# Altium schematic symbol library THD Passive Components.SchLib: 13 symbols
Pins are listed as number, name and electrical type; pins without a type are passive.

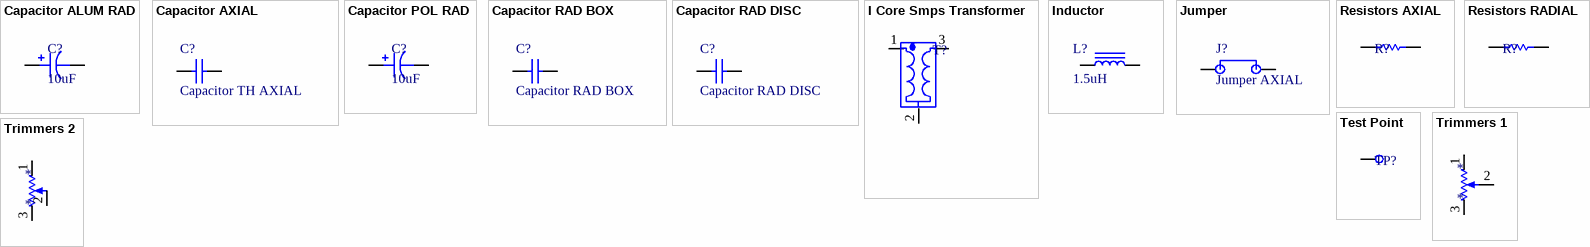
[diagram p0: symbols Capacitor ALUM RAD to Trimmers 2]

## Capacitor ALUM RAD
designator C?, comment 10uF
ALUM Polarised Capacitor; Value: 10uF
footprint CAP AL TH D10 L5 H12.5 (10MM Diameter, 5MM Lead Spacing Aluminium Capacitor)
footprint CAP AL TH D10 L5 H14.5 (10MM Diameter, 5MM Lead Spacing Aluminium Capacitor)
footprint CAP AL TH D10 L5 H17.5 (10MM Diameter, 5MM Lead Spacing Aluminium Capacitor)
footprint CAP AL TH D10 L5 H22 (10MM Diameter, 5MM Lead Spacing Aluminium Capacitor)
footprint CAP AL TH D10 L5 H30 (10MM Diameter, 5MM Lead Spacing Aluminium Capacitor)
footprint CAP AL TH D12.5 L5 H14 (12.5MM Diameter, 5MM Lead Spacing Aluminium Capacitor)
footprint CAP AL TH D12.5 L5 H15 (12.5MM Diameter, 5MM Lead Spacing Aluminium Capacitor)
footprint CAP AL TH D12.5 L5 H16.5 (12.5MM Diameter, 5MM Lead Spacing Aluminium Capacitor)
footprint CAP AL TH D12.5 L5 H17.5 (12.5MM Diameter, 5MM Lead Spacing Aluminium Capacitor)
footprint CAP AL TH D12.5 L5 H20 (12.5MM Diameter, 5MM Lead Spacing Aluminium Capacitor)
footprint CAP AL TH D12.5 L5 H21.5 (12.5MM Diameter, 5MM Lead Spacing Aluminium Capacitor)
footprint CAP AL TH D12.5 L5 H22 (12.5MM Diameter, 5MM Lead Spacing Aluminium Capacitor)
footprint CAP AL TH D12.5 L5 H25 (12.5MM Diameter, 5MM Lead Spacing Aluminium Capacitor)
footprint CAP AL TH D12.5 L5 H26.5 (12.5MM Diameter, 5MM Lead Spacing Aluminium Capacitor)
footprint CAP AL TH D12.5 L5 H27 (12.5MM Diameter, 5MM Lead Spacing Aluminium Capacitor)
footprint CAP AL TH D12.5 L5 H35.5 (12.5MM Diameter, 5MM Lead Spacing Aluminium Capacitor)
footprint CAP AL TH D16 L7.5 H16.5 (16MM Diameter, 7.5MM Lead Spacing Aluminium Capacitor)
footprint CAP AL TH D16 L7.5 H20 (16MM Diameter, 7.5MM Lead Spacing Aluminium Capacitor)
footprint CAP AL TH D16 L7.5 H22 (16MM Diameter, 7.5MM Lead Spacing Aluminium Capacitor)
footprint CAP AL TH D16 L7.5 H26.5 (16MM Diameter, 7.5MM Lead Spacing Aluminium Capacitor)
footprint CAP AL TH D16 L7.5 H27 (16MM Diameter, 7.5MM Lead Spacing Aluminium Capacitor)
footprint CAP AL TH D16 L7.5 H33.5 (16MM Diameter, 7.5MM Lead Spacing Aluminium Capacitor)
footprint CAP AL TH D16 L7.5 H37 (16MM Diameter, 7.5MM Lead Spacing Aluminium Capacitor)
footprint CAP AL TH D22 L10 H14.5 (16MM Diameter, 7.5MM Lead Spacing Aluminium Capacitor)
footprint CAP AL TH D22 L10 H33 (16MM Diameter, 7.5MM Lead Spacing Aluminium Capacitor)
footprint CAP AL TH D22 L10 H43 (16MM Diameter, 7.5MM Lead Spacing Aluminium Capacitor)
footprint CAP AL TH D22 L10 H53 (16MM Diameter, 7.5MM Lead Spacing Aluminium Capacitor)
footprint CAP AL TH D25 L12.5 H14.5 (16MM Diameter, 7.5MM Lead Spacing Aluminium Capacitor)
footprint CAP AL TH D25 L12.5 H32 (16MM Diameter, 7.5MM Lead Spacing Aluminium Capacitor)
footprint CAP AL TH D25 L12.5 H42 (16MM Diameter, 7.5MM Lead Spacing Aluminium Capacitor)
footprint CAP AL TH D25 L12.5 H52 (16MM Diameter, 7.5MM Lead Spacing Aluminium Capacitor)
pins: 1, 2

## Capacitor AXIAL
designator C?, comment Capacitor TH AXIAL
AXIAL, Non Polarized Capacitor
footprint AXIAL-0.2-CAP
footprint AXIAL-0.3-CAP
footprint AXIAL-0.4-CAP
pins: 1, 2
1 alternate drawing of the same symbol

## Capacitor POL RAD
designator C?, comment 10uF
RAD Polarised Capacitor; Value: 10uF
footprint RB.1/.2-CAP-POL
footprint RB.1/.3-CAP-POL
footprint RB.2/.4-CAP-POL
footprint RB.2/.5-CAP-POL (RB.2/.5 Electrolitic Capacitor)
footprint RB.3/.6-CAP-POL
footprint RB.4/.8-CAP-POL
pins: 1, 2

## Capacitor RAD BOX
designator C?
Radial, Box Type Polyester Capacitor
footprint RAD0.2-CAP-BOX
footprint RAD0.2-CAP-BOX SQ
footprint RAD0.3-CAP-BOX
footprint RAD0.4-CAP-BOX
footprint RAD0.6-CAP-BOX (Axial Device, Thru-Hole; 2 Leads; 0.6 in Pin Spacing)
footprint RAD0.9-CAP-BOX (Axial Device, Thru-Hole; 2 Leads; 0.9 in Pin Spacing)
footprint RAD1.1-CAP-BOX (Axial Device, Thru-Hole; 2 Leads; 1.0 in Pin Spacing)
pins: 1, 2
1 alternate drawing of the same symbol

## Capacitor RAD DISC
designator C?
Radial, Disc Type Ceramic Capacitor
footprint RAD0.1-CAP-DISC
footprint RAD0.2-CAP-DISC
footprint RAD0.3-CAP-DISC
pins: 1, 2
1 alternate drawing of the same symbol

## I Core Smps Transformer
designator T?
SMPS Transformer 1-3 300u, 1-2 100u, 2-3 56u
footprint YR I Core Auto Transformer - 1
pins: 1, 2, 3

## Inductor
designator L?, comment 1.5uH
Thru Hole Inductor; Value: 1.5uH
footprint IND I or DRUM CORE Radial Thru Hole 12x14mm and Pitch 6mm
footprint IND I or DRUM CORE Radial Thru Hole 12x20mm and Pitch 6mm
pins: 1, 2

## Jumper
designator J?, comment Jumper AXIAL
Jumper - Wire; Published: 24-Mar-1999; LatestRevisionDate: 17-Jul-2002; LatestRevisionNote: Re-released for DXP Platform.; PackageReference: RAD-0.2; Publisher: Altium Limited
footprint AXIAL-0.1-JMP
footprint AXIAL-0.2-JMP
footprint AXIAL-0.3-JMP
footprint AXIAL-0.4-JMP
pins: 1 C1, 2 C2

## Resistors AXIAL
designator R?
Resistors AXIAL
footprint AXIAL-0.3-RES (Axial Device, Thru-Hole; 2 Leads; 0.3 in Pin Spacing)
footprint AXIAL-0.4-RES (Axial Device, Thru-Hole; 2 Leads; 0.4 in Pin Spacing)
footprint AXIAL-0.5-RES (Axial Device, Thru-Hole; 2 Leads; 0.5 in Pin Spacing)
footprint AXIAL-0.6-RES (Axial Device, Thru-Hole; 2 Leads; 0.6 in Pin Spacing)
footprint AXIAL-0.7-RES (Axial Device, Thru-Hole; 2 Leads; 0.7 in Pin Spacing)
footprint AXIAL-0.8-RES (Axial Device, Thru-Hole; 2 Leads; 0.8 in Pin Spacing)
footprint AXIAL-0.9-RES (Axial Device, Thru-Hole; 2 Leads; 0.9 in Pin Spacing)
footprint AXIAL-1.0-RES (Axial Device, Thru-Hole; 2 Leads; 1.0 in Pin Spacing)
pins: 1, 2

## Resistors RADIAL
designator R?
Resistors RADIAL
footprint RAD0.1-RES
footprint RAD0.2-RES
footprint RAD0.3-RES
pins: 1, 2

## Test Point
designator TP?
Test Point
footprint HDR1X1-TP (Connector; Header; 2 Position)
pins: 1

## Trimmers 1
designator *
Trimmers 1
footprint Bourns 3006p
footprint Bourns 3296w
footprint POT MODEL91A
pins: 1, 2, 3

## Trimmers 2
designator *
Trimmers 2
footprint Bourns 3006p
footprint Bourns 3296w
footprint POT MODEL91A
pins: 1, 2, 3